# EAGLE library part TD62083AF (library TD62083AF)
IC DRIVER DARL SINK 8-CH 18-SOP Source: Datasheet <https://pdf1.alldatasheet.com/datasheet-pdf/view/32261/TOSHIBA/TD62083AF.html>
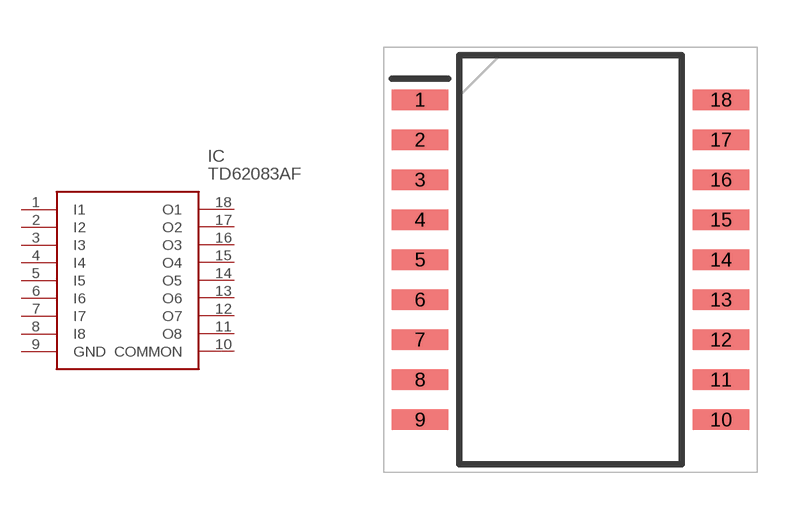
[diagram p0: symbol with the pads of SOIC127P1030X245-18N; footprint SOIC127P1030X245-18N]

Designator prefix IC

## TD62083AF (Description: IC DRIVER DARL SINK 8-CH 18-SOP; Height: 2.45mm; Manufacturer_Name: Toshiba; Manufacturer_Part_Number: TD62083AF)  [SOIC127P1030X245-18N]
1  I1
2  I2
3  I3
4  I4
5  I5
6  I6
7  I7
8  I8
9  GND
10  COMMON
11  O8
12  O7
13  O6
14  O5
15  O4
16  O3
17  O2
18  O1

## Footprint SOIC127P1030X245-18N (pad centres in mm)
SOP18-P-375-1.27
smd 1.8 x 0.65: 1 -4.775,5.08; 2 -4.775,3.81; 3 -4.775,2.54; 4 -4.775,1.27; 5 -4.775,0; 6 -4.775,-1.27; 7 -4.775,-2.54; 8 -4.775,-3.81; 9 -4.775,-5.08; 10 4.775,-5.08; 11 4.775,-3.81; 12 4.775,-2.54; 13 4.775,-1.27; 14 4.775,0; 15 4.775,1.27; 16 4.775,2.54; 17 4.775,3.81; 18 4.775,5.08